# EAGLE library part BMP280_1 (library Naze32Lib)
Bosch BMP280 Pressure Sensor
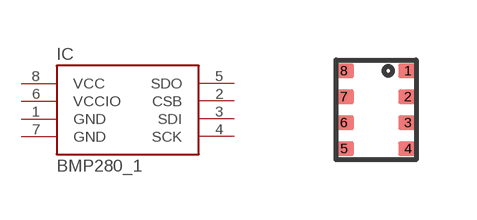
[diagram p7: symbol with the pads of LGA8; footprint LGA8]

Designator prefix IC

## BMP280_1  [LGA8]
1  GND  pwr
2  CSB  in
3  SDI
4  SCK
5  SDO
6  VCCIO  pwr
7  GND  pwr
8  VCC  pwr

## Footprint LGA8 (pad centres in mm)
smd 0.5 x 0.35: 1 0.8,0.975; 2 0.8,0.325; 3 0.8,-0.325; 4 0.8,-0.975; 5 -0.8,-0.975; 6 -0.8,-0.325; 7 -0.8,0.325; 8 -0.8,0.975